# Altium footprint library PCB - CONNECTOR - WURTH - 7471267.PCBLIB: 1 footprints
Each footprint in its own frame and in the unit in brackets; x right, y up, seen from the top. Pads: shape width x height; smd on the part's side, far side on the other; paste and mask are expansions set on the pad; w line width, h text height; cw(c..) or ccw(c..) is an arc to the next point about the centre after c.
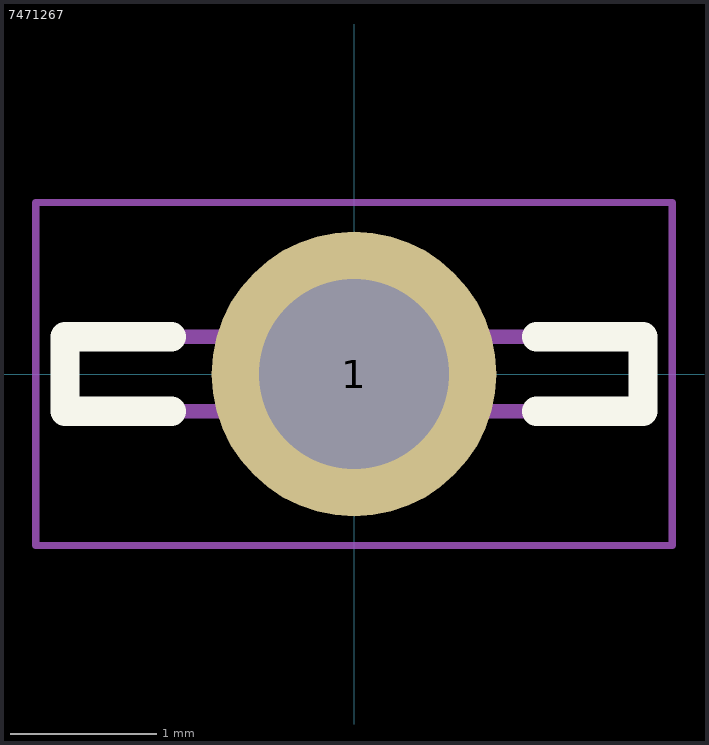
[diagram p0: the footprint, top view; thin cyan lines are the x and y axes]

## 7471267 [mm] "Mounting Tabs & Tubular Cable Lugs"
height 9.02
pads (1):
  round 1.95 hole 1.3: 1(0,0)
Top Overlay:
  lines w0.2: -1.25,-0.255 -1.98,-0.255 -1.98,0.255 -1.25,0.255 ; 1.25,-0.255 1.98,-0.255 1.98,0.255 1.25,0.255
Top Assembly:
  lines w0.1: -1.98,-0.255 1.98,-0.255 1.98,0.255 -1.98,0.255 -1.98,-0.255
Top Courtyard:
  lines w0.05: -0.5,0 0.5,0 ; 0,-0.5 0,0.5 ; -2.18,-1.175 2.18,-1.175 2.18,1.175 -2.18,1.175 -2.18,-1.175
Top Designator:
  text ".Designator" at -2.159,2.54 h1
Top Value (Mech13):
  text ".Comment" at -2.159,1.651 h1
3D body "7471267.stp": height 9.06, standoff -4.71, extent -1.98,-0.255 1.98,0.255